# Altium integrated library National Semiconductor Audio.IntLib: 683 symbols (part 6 of 18)
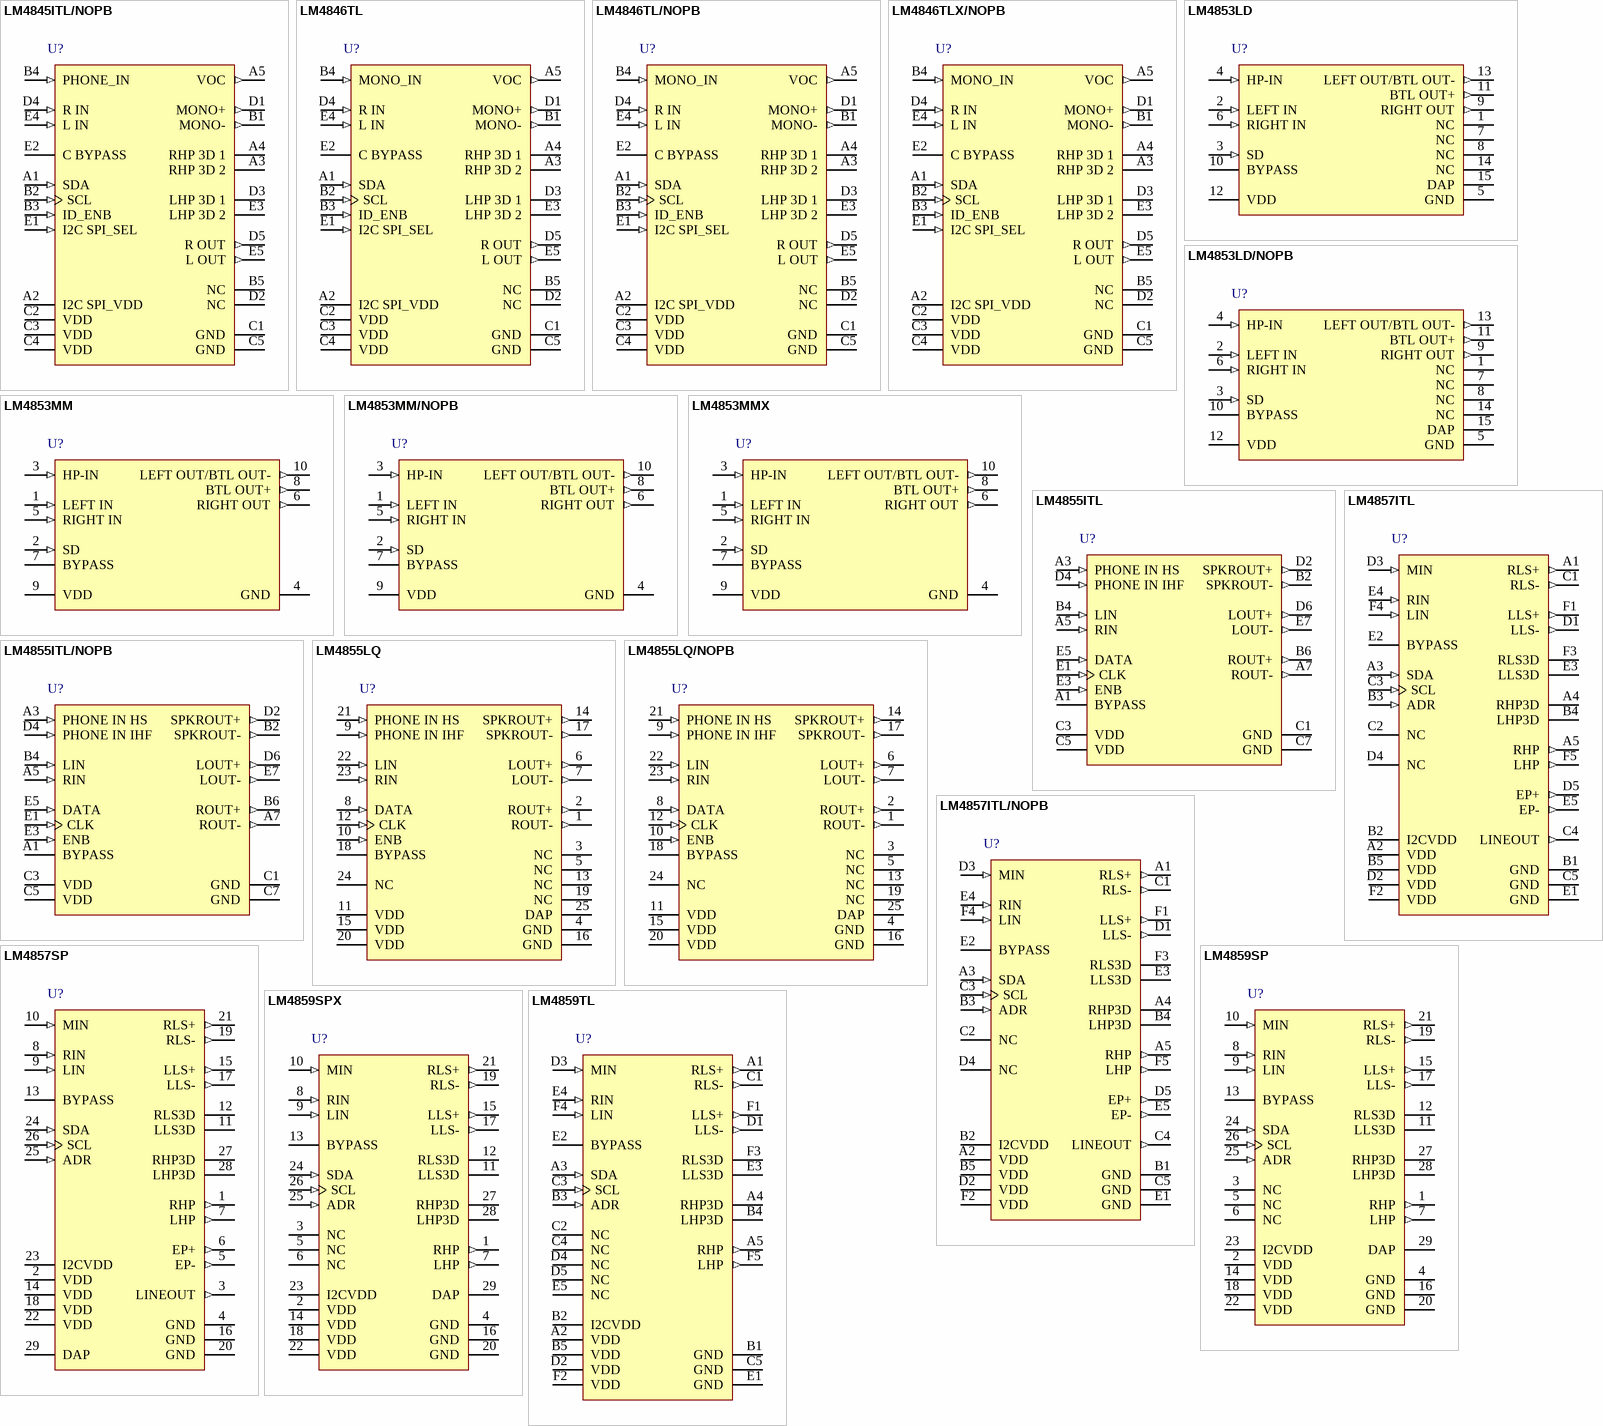
[diagram p32: symbols LM4845ITL/NOPB to LM4859TL]

## LM4857ITL
designator U?
Stereo 1.2W Audio Sub-system with 3D Enhancement, 30-pin Micro SMD; PartNumber: LM4857ITL; Manufacturer: National Semiconductor; PackageTopMarking: XVG*I C2; PowerWise: N; CompType: Audio IC; High-Reliability: Y; DatasheetVersion: Jun-2005; PackageVersion: revC, Dec-2003; PackageReference: TLA30CZA; PackageDescription: Thin Micro SMD, 30 Bump (Large), 0.5mm Pitch; RoHS: Y; PinCount: 30; Code_JEDEC: MO-211-DJ; ComponentLink1Description: Manufacturer URL; ComponentLink1URL: http://www.national.com/; ComponentLink2Description: LM4857 Datasheet; ComponentLink2URL: http://www.national.com/ds/LM/LM4857.pdf; ComponentLink3Description: LM4857 Web Page; ComponentLink3URL: http://www.national.com/pf/LM/LM4857.html; ComponentLink4Description: TLA30CZA Package Page; ComponentLink4URL: http://www.national.com/packaging/folders/tla30cza.html
footprint TLA30CZA (Micro SMD, 30-Leads, Body 2.95x2.55mm, Pitch 0.5mm, NSC Recommended)
pins: A1 RLS+ (out), A2 VDD (power), A3 SDA (in), A4 RHP3D, A5 RHP (out), B1 GND (power), B2 I2CVDD (power), B3 ADR (in), B4 LHP3D, B5 VDD (power), C1 RLS- (out), C2 NC, C3 SCL (in), C4 LINEOUT (out), C5 GND (power), D1 LLS- (out), D2 VDD (power), D3 MIN (in), D4 NC, D5 EP+ (out), E1 GND (power), E2 BYPASS, E3 LLS3D, E4 RIN (in), E5 EP- (out), F1 LLS+ (out), F2 VDD (power), F3 RLS3D, F4 LIN (in), F5 LHP (out)

## LM4857ITL/NOPB
designator U?
Stereo 1.2W Audio Sub-system with 3D Enhancement, 30-pin Micro SMD, Pb-Free; PartNumber: LM4857ITL/NOPB; Manufacturer: National Semiconductor; PackageTopMarking: XVG*I C2; PowerWise: N; CompType: Audio IC; High-Reliability: Y; DatasheetVersion: Jun-2005; PackageVersion: revC, Dec-2003; PackageReference: TLA30CZA; PackageDescription: Thin Micro SMD, 30 Bump (Large), 0.5mm Pitch; RoHS: Y; PinCount: 30; Code_JEDEC: MO-211-DJ; ComponentLink1Description: Manufacturer URL; ComponentLink1URL: http://www.national.com/; ComponentLink2Description: LM4857 Datasheet; ComponentLink2URL: http://www.national.com/ds/LM/LM4857.pdf; ComponentLink3Description: LM4857 Web Page; ComponentLink3URL: http://www.national.com/pf/LM/LM4857.html; ComponentLink4Description: TLA30CZA Package Page; ComponentLink4URL: http://www.national.com/packaging/folders/tla30cza.html
footprint TLA30CZA (Micro SMD, 30-Leads, Body 2.95x2.55mm, Pitch 0.5mm, NSC Recommended)
pins: A1 RLS+ (out), A2 VDD (power), A3 SDA (in), A4 RHP3D, A5 RHP (out), B1 GND (power), B2 I2CVDD (power), B3 ADR (in), B4 LHP3D, B5 VDD (power), C1 RLS- (out), C2 NC, C3 SCL (in), C4 LINEOUT (out), C5 GND (power), D1 LLS- (out), D2 VDD (power), D3 MIN (in), D4 NC, D5 EP+ (out), E1 GND (power), E2 BYPASS, E3 LLS3D, E4 RIN (in), E5 EP- (out), F1 LLS+ (out), F2 VDD (power), F3 RLS3D, F4 LIN (in), F5 LHP (out)

## LM4857SP
designator U?
Stereo 1.2W Audio Sub-system with 3D Enhancement, 29-pin LLP; PartNumber: LM4857SP; Manufacturer: National Semiconductor; PackageTopMarking: NS*UZXYTT*L4857SP; PowerWise: N; CompType: Audio IC; High-Reliability: Y; DatasheetVersion: Jun-2005; PackageVersion: revA, Aug-2003; PackageReference: SPA28A; PackageDescription: LLP, Plastic, Quad, 5 x 5 x 0.6mm Body, 28 Lead, 0.5mm Pitch, No Pullback; RoHS: N; PinCount: 28; Code_JEDEC: MO-220-WHHD-3; ComponentLink1Description: Manufacturer URL; ComponentLink1URL: http://www.national.com/; ComponentLink2Description: LM4857 Datasheet; ComponentLink2URL: http://www.national.com/ds/LM/LM4857.pdf; ComponentLink3Description: LM4857 Web Page; ComponentLink3URL: http://www.national.com/pf/LM/LM4857.html; ComponentLink4Description: SPA28A Package Page; ComponentLink4URL: http://www.national.com/packaging/folders/spa28a.html
footprint SPA28A (QFN, 28-Leads, Body 5x5mm, Pitch 0.5mm, Thermal Pad 3.7x3.7mm, NSC Recommended)
pins: 1 RHP (out), 2 VDD (power), 3 LINEOUT (out), 4 GND (power), 5 EP- (out), 6 EP+ (out), 7 LHP (out), 8 RIN (in), 9 LIN (in), 10 MIN (in), 11 LLS3D, 12 RLS3D, 13 BYPASS, 14 VDD (power), 15 LLS+ (out), 16 GND (power), 17 LLS- (out), 18 VDD (power), 19 RLS- (out), 20 GND (power), 21 RLS+ (out), 22 VDD (power), 23 I2CVDD (power), 24 SDA (in), 25 ADR (in), 26 SCL (in), 27 RHP3D, 28 LHP3D, 29 DAP (power)

## LM4859SP
designator U?
Stereo 1.2W Audio Sub-system with 3D Enhancement, 29-pin LLP; PartNumber: LM4859SP; Manufacturer: National Semiconductor; PackageTopMarking: NS*UZXYTT*L4859SP; PowerWise: N; CompType: Audio IC; High-Reliability: Y; DatasheetVersion: Jun-2005; PackageVersion: revA, Aug-2003; PackageReference: SPA28A; PackageDescription: LLP, Plastic, Quad, 5 x 5 x 0.6mm Body, 28 Lead, 0.5mm Pitch, No Pullback; RoHS: N; PinCount: 28; Code_JEDEC: MO-220-WHHD-3; ComponentLink1Description: Manufacturer URL; ComponentLink1URL: http://www.national.com/; ComponentLink2Description: LM4859 Datasheet; ComponentLink2URL: http://www.national.com/ds/LM/LM4859.pdf; ComponentLink3Description: LM4859 Web Page; ComponentLink3URL: http://www.national.com/pf/LM/LM4859.html; ComponentLink4Description: SPA28A Package Page; ComponentLink4URL: http://www.national.com/packaging/folders/spa28a.html
footprint SPA28A (QFN, 28-Leads, Body 5x5mm, Pitch 0.5mm, Thermal Pad 3.7x3.7mm, NSC Recommended)
pins: 1 RHP (out), 2 VDD (power), 3 NC, 4 GND (power), 5 NC, 6 NC, 7 LHP (out), 8 RIN (in), 9 LIN (in), 10 MIN (in), 11 LLS3D, 12 RLS3D, 13 BYPASS, 14 VDD (power), 15 LLS+ (out), 16 GND (power), 17 LLS- (out), 18 VDD (power), 19 RLS- (out), 20 GND (power), 21 RLS+ (out), 22 VDD (power), 23 I2CVDD (power), 24 SDA (in), 25 ADR (in), 26 SCL (in), 27 RHP3D, 28 LHP3D, 29 DAP (power)

## LM4859SPX
designator U?
Stereo 1.2W Audio Sub-system with 3D Enhancement, 28-pin LLP; PartNumber: LM4859SPX; Manufacturer: National Semiconductor; PackageTopMarking: NS*UZXYTT*L4859SP; PowerWise: N; CompType: Audio IC; High-Reliability: Y; DatasheetVersion: Jun-2005; PackageVersion: revA, Aug-2003; PackageReference: SPA28A; PackageDescription: LLP, Plastic, Quad, 5 x 5 x 0.6mm Body, 28 Lead, 0.5mm Pitch, No Pullback; RoHS: N; PinCount: 28; Code_JEDEC: MO-220-WHHD-3; ComponentLink1Description: Manufacturer URL; ComponentLink1URL: http://www.national.com/; ComponentLink2Description: LM4859 Datasheet; ComponentLink2URL: http://www.national.com/ds/LM/LM4859.pdf; ComponentLink3Description: LM4859 Web Page; ComponentLink3URL: http://www.national.com/pf/LM/LM4859.html; ComponentLink4Description: SPA28A Package Page; ComponentLink4URL: http://www.national.com/packaging/folders/spa28a.html
footprint SPA28A (QFN, 28-Leads, Body 5x5mm, Pitch 0.5mm, Thermal Pad 3.7x3.7mm, NSC Recommended)
pins: 1 RHP (out), 2 VDD (power), 3 NC, 4 GND (power), 5 NC, 6 NC, 7 LHP (out), 8 RIN (in), 9 LIN (in), 10 MIN (in), 11 LLS3D, 12 RLS3D, 13 BYPASS, 14 VDD (power), 15 LLS+ (out), 16 GND (power), 17 LLS- (out), 18 VDD (power), 19 RLS- (out), 20 GND (power), 21 RLS+ (out), 22 VDD (power), 23 I2CVDD (power), 24 SDA (in), 25 ADR (in), 26 SCL (in), 27 RHP3D, 28 LHP3D, 29 DAP (power)

## LM4859TL
designator U?
Stereo 1.2W Audio Sub-system with 3D Enhancement, 30-pin Micro SMD; PartNumber: LM4859TL; Manufacturer: National Semiconductor; PackageTopMarking: XYTT*I GF1; PowerWise: N; CompType: Audio IC; High-Reliability: Y; DatasheetVersion: Jun-2005; PackageVersion: revC, Dec-2003; PackageReference: TLA30CZA; PackageDescription: Thin Micro SMD, 30 Bump (Large), 0.5mm Pitch; RoHS: Y; PinCount: 30; Code_JEDEC: MO-211-DJ; ComponentLink1Description: Manufacturer URL; ComponentLink1URL: http://www.national.com/; ComponentLink2Description: LM4859 Datasheet; ComponentLink2URL: http://www.national.com/ds/LM/LM4859.pdf; ComponentLink3Description: LM4859 Web Page; ComponentLink3URL: http://www.national.com/pf/LM/LM4859.html; ComponentLink4Description: TLA30CZA Package Page; ComponentLink4URL: http://www.national.com/packaging/folders/tla30cza.html
footprint TLA30CZA (Micro SMD, 30-Leads, Body 2.95x2.55mm, Pitch 0.5mm, NSC Recommended)
pins: A1 RLS+ (out), A2 VDD (power), A3 SDA (in), A4 RHP3D, A5 RHP (out), B1 GND (power), B2 I2CVDD (power), B3 ADR (in), B4 LHP3D, B5 VDD (power), C1 RLS- (out), C2 NC, C3 SCL (in), C4 NC, C5 GND (power), D1 LLS- (out), D2 VDD (power), D3 MIN (in), D4 NC, D5 NC, E1 GND (power), E2 BYPASS, E3 LLS3D, E4 RIN (in), E5 NC, F1 LLS+ (out), F2 VDD (power), F3 RLS3D, F4 LIN (in), F5 LHP (out)

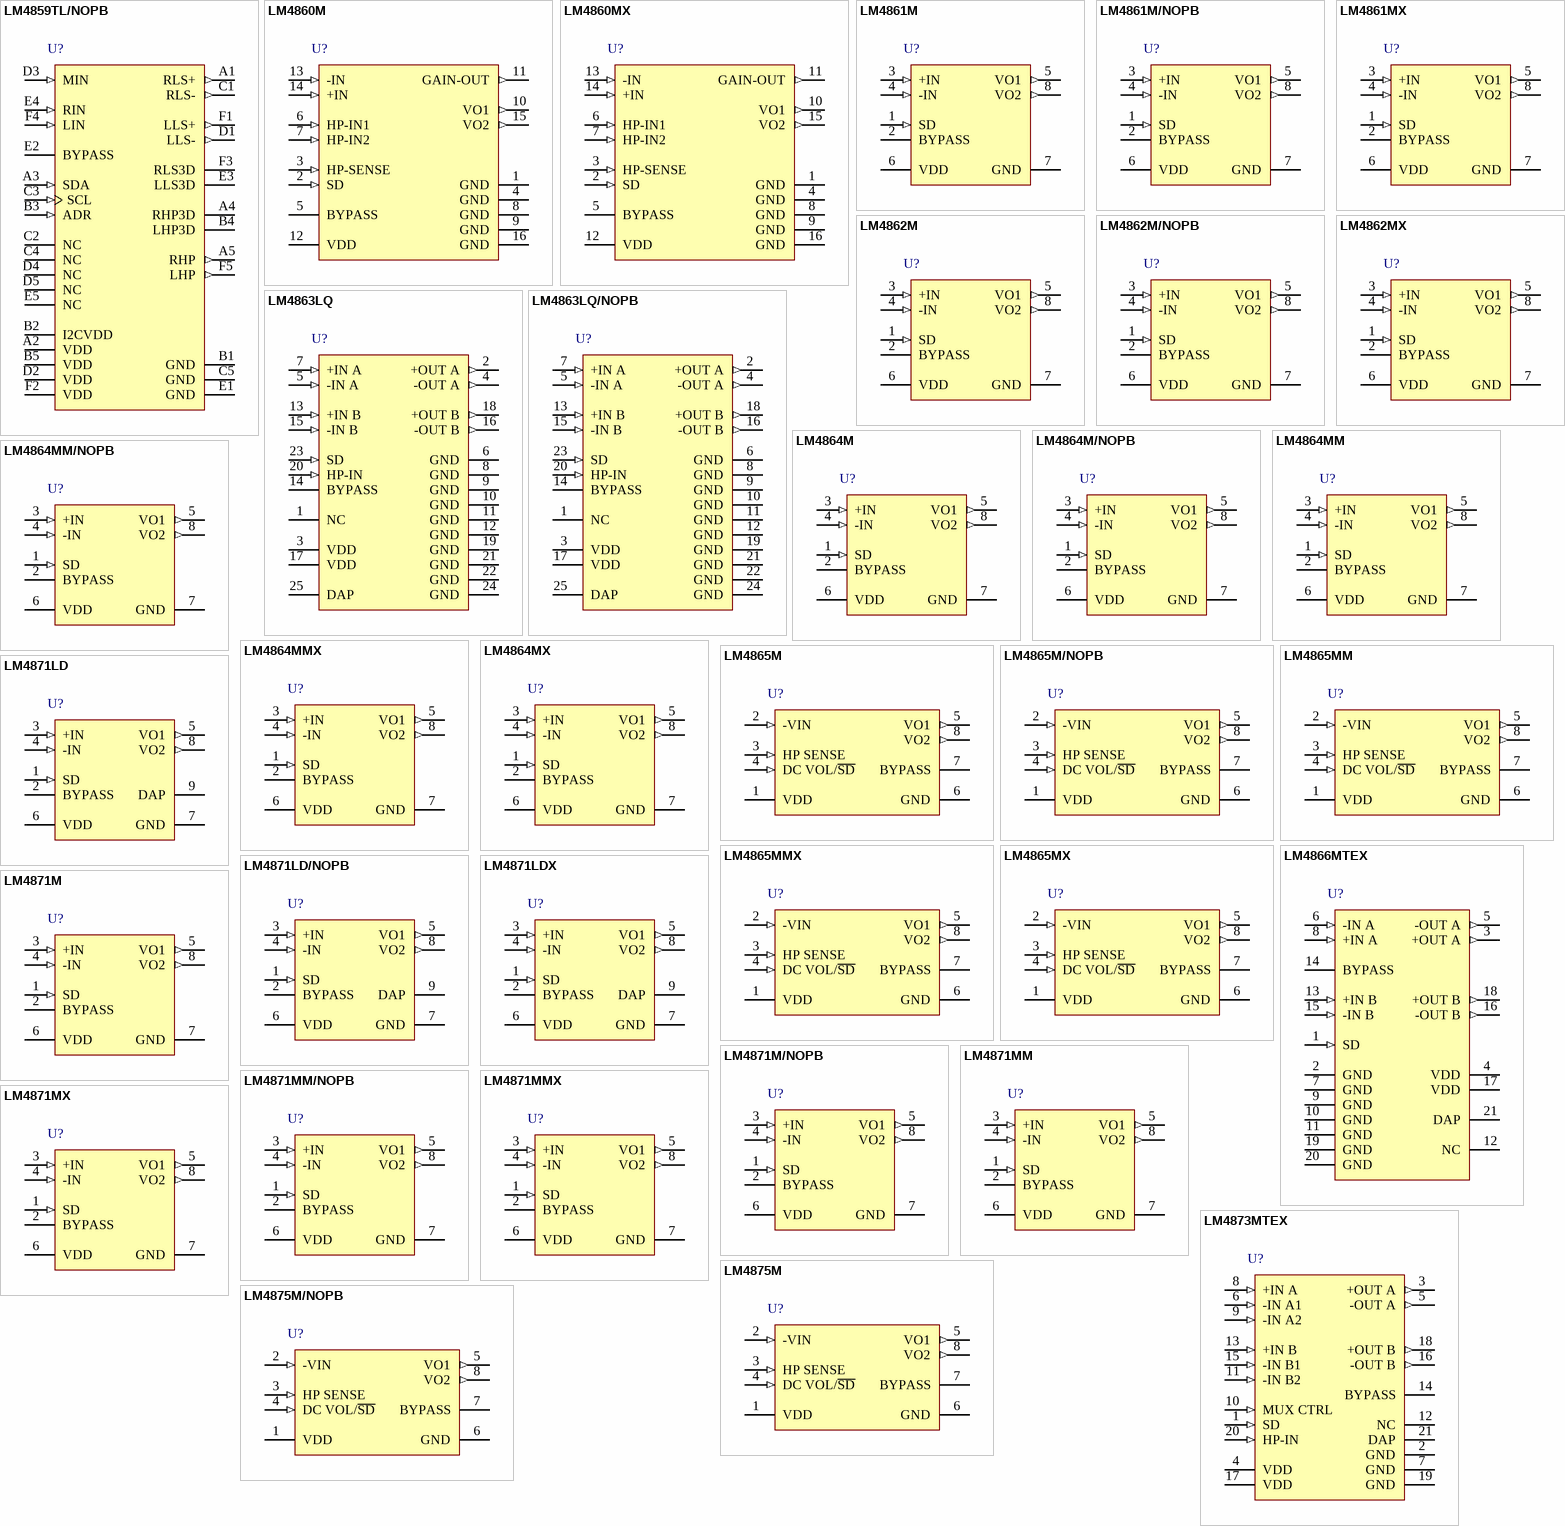
[diagram p8: symbols LM4859TL/NOPB to LM4875M/NOPB]

## LM4859TL/NOPB
designator U?
Stereo 1.2W Audio Sub-system with 3D Enhancement, 30-pin Micro SMD, Pb-Free; PartNumber: LM4859TL/NOPB; Manufacturer: National Semiconductor; PackageTopMarking: XYTT*I GF1; PowerWise: N; CompType: Audio IC; High-Reliability: Y; DatasheetVersion: Jun-2005; PackageVersion: revC, Dec-2003; PackageReference: TLA30CZA; PackageDescription: Thin Micro SMD, 30 Bump (Large), 0.5mm Pitch; RoHS: Y; PinCount: 30; Code_JEDEC: MO-211-DJ; ComponentLink1Description: Manufacturer URL; ComponentLink1URL: http://www.national.com/; ComponentLink2Description: LM4859 Datasheet; ComponentLink2URL: http://www.national.com/ds/LM/LM4859.pdf; ComponentLink3Description: LM4859 Web Page; ComponentLink3URL: http://www.national.com/pf/LM/LM4859.html; ComponentLink4Description: TLA30CZA Package Page; ComponentLink4URL: http://www.national.com/packaging/folders/tla30cza.html
footprint TLA30CZA (Micro SMD, 30-Leads, Body 2.95x2.55mm, Pitch 0.5mm, NSC Recommended)
pins: A1 RLS+ (out), A2 VDD (power), A3 SDA (in), A4 RHP3D, A5 RHP (out), B1 GND (power), B2 I2CVDD (power), B3 ADR (in), B4 LHP3D, B5 VDD (power), C1 RLS- (out), C2 NC, C3 SCL (in), C4 NC, C5 GND (power), D1 LLS- (out), D2 VDD (power), D3 MIN (in), D4 NC, D5 NC, E1 GND (power), E2 BYPASS, E3 LLS3D, E4 RIN (in), E5 NC, F1 LLS+ (out), F2 VDD (power), F3 RLS3D, F4 LIN (in), F5 LHP (out)

## LM4860M
designator U?
1W Audio Power Amplifier with Shutdown Mode, 16-pin Narrow SOIC; PartNumber: LM4860M; Manufacturer: National Semiconductor; PackageTopMarking: NSUZXYTTE#*LM4860M; PowerWise: N; CompType: Audio IC; High-Reliability: Y; DatasheetVersion: Aug-2000; PackageVersion: revJ, Aug-1995; PackageReference: M16A; PackageDescription: Molded Package, SO, .150in Wide, 16 Lead; RoHS: N; PinCount: 16; Code_JEDEC: MS-012-AC; Code_IPC: SOIC127P600-16; ComponentLink1Description: Manufacturer URL; ComponentLink1URL: http://www.national.com/; ComponentLink2Description: LM4860 Datasheet; ComponentLink2URL: http://www.national.com/ds/LM/LM4860.pdf; ComponentLink3Description: LM4860 Web Page; ComponentLink3URL: http://www.national.com/pf/LM/LM4860.html; ComponentLink4Description: M16A Package Page; ComponentLink4URL: http://www.national.com/packaging/folders/m16a.html
footprint M16A_N (SOIC, 16-Leads, Body 9.9x3.9mm, Pitch 1.27mm, IPC Medium Density)
footprint M16A_L (SOIC, 16-Leads, Body 9.9x3.9mm, Pitch 1.27mm, IPC High Density)
footprint M16A_M (SOIC, 16-Leads, Body 9.9x3.9mm, Pitch 1.27mm, IPC Low Density)
pins: 1 GND (power), 2 SD (in), 3 HP-SENSE (in), 4 GND (power), 5 BYPASS, 6 HP-IN1 (in), 7 HP-IN2 (in), 8 GND (power), 9 GND (power), 10 VO1 (out), 11 GAIN-OUT (out), 12 VDD (power), 13 -IN (in), 14 +IN (in), 15 VO2 (out), 16 GND (power)

## LM4860MX
designator U?
1W Audio Power Amplifier with Shutdown Mode, 16-pin Narrow SOIC; PartNumber: LM4860MX; Manufacturer: National Semiconductor; PackageTopMarking: NSUZXYTTE#*LM4860M; PowerWise: N; CompType: Audio IC; High-Reliability: Y; DatasheetVersion: Aug-2000; PackageVersion: revJ, Aug-1995; PackageReference: M16A; PackageDescription: Molded Package, SO, .150in Wide, 16 Lead; RoHS: N; PinCount: 16; Code_JEDEC: MS-012-AC; Code_IPC: SOIC127P600-16; ComponentLink1Description: Manufacturer URL; ComponentLink1URL: http://www.national.com/; ComponentLink2Description: LM4860 Datasheet; ComponentLink2URL: http://www.national.com/ds/LM/LM4860.pdf; ComponentLink3Description: LM4860 Web Page; ComponentLink3URL: http://www.national.com/pf/LM/LM4860.html; ComponentLink4Description: M16A Package Page; ComponentLink4URL: http://www.national.com/packaging/folders/m16a.html
footprint M16A_N (SOIC, 16-Leads, Body 9.9x3.9mm, Pitch 1.27mm, IPC Medium Density)
footprint M16A_L (SOIC, 16-Leads, Body 9.9x3.9mm, Pitch 1.27mm, IPC High Density)
footprint M16A_M (SOIC, 16-Leads, Body 9.9x3.9mm, Pitch 1.27mm, IPC Low Density)
pins: 1 GND (power), 2 SD (in), 3 HP-SENSE (in), 4 GND (power), 5 BYPASS, 6 HP-IN1 (in), 7 HP-IN2 (in), 8 GND (power), 9 GND (power), 10 VO1 (out), 11 GAIN-OUT (out), 12 VDD (power), 13 -IN (in), 14 +IN (in), 15 VO2 (out), 16 GND (power)

## LM4861M
designator U?
1.1W Audio Power Amplifier with Shutdown Mode, 8-pin Narrow SOIC; PartNumber: LM4861M; Manufacturer: National Semiconductor; PackageTopMarking: NSZXTT*LM*4861M; PowerWise: N; CompType: Audio IC; High-Reliability: Y; DatasheetVersion: Feb-2003; PackageVersion: revM, May-2009; PackageReference: M08A; PackageDescription: SOIC Narrow, 4.9 x 3.9 x 1.45mm, 8 Lead, 1.27mm Pitch; RoHS: N; PinCount: 8; Code_JEDEC: MS-012-AA; Code_IPC: SOIC127P600-8; ComponentLink1Description: Manufacturer URL; ComponentLink1URL: http://www.national.com/; ComponentLink2Description: LM4861 Datasheet; ComponentLink2URL: http://www.national.com/ds/LM/LM4861.pdf; ComponentLink3Description: LM4861 Web Page; ComponentLink3URL: http://www.national.com/pf/LM/LM4861.html; ComponentLink4Description: M08A Package Page; ComponentLink4URL: http://www.national.com/packaging/folders/m08a.html
footprint M08A_N (SOIC, 8-Leads, Body 4.9x3.9mm, Pitch 1.27mm, IPC Medium Density)
footprint M08A_L (SOIC, 8-Leads, Body 4.9x3.9mm, Pitch 1.27mm, IPC High Density)
footprint M08A_M (SOIC, 8-Leads, Body 4.9x3.9mm, Pitch 1.27mm, IPC Low Density)
pins: 1 SD (in), 2 BYPASS, 3 +IN (in), 4 -IN (in), 5 VO1 (out), 6 VDD (power), 7 GND (power), 8 VO2 (out)

## LM4861M/NOPB
designator U?
1.1W Audio Power Amplifier with Shutdown Mode, 8-pin Narrow SOIC, Pb-Free; PartNumber: LM4861M/NOPB; Manufacturer: National Semiconductor; PackageTopMarking: NSZXTT*LM*4861M; PowerWise: N; CompType: Audio IC; High-Reliability: Y; DatasheetVersion: Feb-2003; PackageVersion: revM, May-2009; PackageReference: M08A; PackageDescription: SOIC Narrow, 4.9 x 3.9 x 1.45mm, 8 Lead, 1.27mm Pitch; RoHS: Y; PinCount: 8; Code_JEDEC: MS-012-AA; Code_IPC: SOIC127P600-8; ComponentLink1Description: Manufacturer URL; ComponentLink1URL: http://www.national.com/; ComponentLink2Description: LM4861 Datasheet; ComponentLink2URL: http://www.national.com/ds/LM/LM4861.pdf; ComponentLink3Description: LM4861 Web Page; ComponentLink3URL: http://www.national.com/pf/LM/LM4861.html; ComponentLink4Description: M08A Package Page; ComponentLink4URL: http://www.national.com/packaging/folders/m08a.html
footprint M08A_N (SOIC, 8-Leads, Body 4.9x3.9mm, Pitch 1.27mm, IPC Medium Density)
footprint M08A_L (SOIC, 8-Leads, Body 4.9x3.9mm, Pitch 1.27mm, IPC High Density)
footprint M08A_M (SOIC, 8-Leads, Body 4.9x3.9mm, Pitch 1.27mm, IPC Low Density)
pins: 1 SD (in), 2 BYPASS, 3 +IN (in), 4 -IN (in), 5 VO1 (out), 6 VDD (power), 7 GND (power), 8 VO2 (out)

## LM4861MX
designator U?
1.1W Audio Power Amplifier with Shutdown Mode, 8-pin Narrow SOIC; PartNumber: LM4861MX; Manufacturer: National Semiconductor; PackageTopMarking: NSZXTT*LM*4861M; PowerWise: N; CompType: Audio IC; High-Reliability: Y; DatasheetVersion: Feb-2003; PackageVersion: revM, May-2009; PackageReference: M08A; PackageDescription: SOIC Narrow, 4.9 x 3.9 x 1.45mm, 8 Lead, 1.27mm Pitch; RoHS: N; PinCount: 8; Code_JEDEC: MS-012-AA; Code_IPC: SOIC127P600-8; ComponentLink1Description: Manufacturer URL; ComponentLink1URL: http://www.national.com/; ComponentLink2Description: LM4861 Datasheet; ComponentLink2URL: http://www.national.com/ds/LM/LM4861.pdf; ComponentLink3Description: LM4861 Web Page; ComponentLink3URL: http://www.national.com/pf/LM/LM4861.html; ComponentLink4Description: M08A Package Page; ComponentLink4URL: http://www.national.com/packaging/folders/m08a.html
footprint M08A_N (SOIC, 8-Leads, Body 4.9x3.9mm, Pitch 1.27mm, IPC Medium Density)
footprint M08A_L (SOIC, 8-Leads, Body 4.9x3.9mm, Pitch 1.27mm, IPC High Density)
footprint M08A_M (SOIC, 8-Leads, Body 4.9x3.9mm, Pitch 1.27mm, IPC Low Density)
pins: 1 SD (in), 2 BYPASS, 3 +IN (in), 4 -IN (in), 5 VO1 (out), 6 VDD (power), 7 GND (power), 8 VO2 (out)

## LM4862M
designator U?
675 mW Audio Power Amplifier with Shutdown Mode, 8-pin Narrow SOIC; PartNumber: LM4862M; Manufacturer: National Semiconductor; PackageTopMarking: NSZXTT*LM*4862M; PowerWise: N; CompType: Audio IC; High-Reliability: Y; DatasheetVersion: Sep-2004; PackageVersion: revM, May-2009; PackageReference: M08A; PackageDescription: SOIC Narrow, 4.9 x 3.9 x 1.45mm, 8 Lead, 1.27mm Pitch; RoHS: N; PinCount: 8; Code_JEDEC: MS-012-AA; Code_IPC: SOIC127P600-8; ComponentLink1Description: Manufacturer URL; ComponentLink1URL: http://www.national.com/; ComponentLink2Description: LM4862 Datasheet; ComponentLink2URL: http://www.national.com/ds/LM/LM4862.pdf; ComponentLink3Description: LM4862 Web Page; ComponentLink3URL: http://www.national.com/pf/LM/LM4862.html; ComponentLink4Description: M08A Package Page; ComponentLink4URL: http://www.national.com/packaging/folders/m08a.html
footprint M08A_N (SOIC, 8-Leads, Body 4.9x3.9mm, Pitch 1.27mm, IPC Medium Density)
footprint M08A_L (SOIC, 8-Leads, Body 4.9x3.9mm, Pitch 1.27mm, IPC High Density)
footprint M08A_M (SOIC, 8-Leads, Body 4.9x3.9mm, Pitch 1.27mm, IPC Low Density)
pins: 1 SD (in), 2 BYPASS, 3 +IN (in), 4 -IN (in), 5 VO1 (out), 6 VDD (power), 7 GND (power), 8 VO2 (out)

## LM4862M/NOPB
designator U?
675 mW Audio Power Amplifier with Shutdown Mode, 8-pin Narrow SOIC, Pb-Free; PartNumber: LM4862M/NOPB; Manufacturer: National Semiconductor; PackageTopMarking: NSZXTT*LM*4862M; PowerWise: N; CompType: Audio IC; High-Reliability: Y; DatasheetVersion: Sep-2004; PackageVersion: revM, May-2009; PackageReference: M08A; PackageDescription: SOIC Narrow, 4.9 x 3.9 x 1.45mm, 8 Lead, 1.27mm Pitch; RoHS: Y; PinCount: 8; Code_JEDEC: MS-012-AA; Code_IPC: SOIC127P600-8; ComponentLink1Description: Manufacturer URL; ComponentLink1URL: http://www.national.com/; ComponentLink2Description: LM4862 Datasheet; ComponentLink2URL: http://www.national.com/ds/LM/LM4862.pdf; ComponentLink3Description: LM4862 Web Page; ComponentLink3URL: http://www.national.com/pf/LM/LM4862.html; ComponentLink4Description: M08A Package Page; ComponentLink4URL: http://www.national.com/packaging/folders/m08a.html
footprint M08A_N (SOIC, 8-Leads, Body 4.9x3.9mm, Pitch 1.27mm, IPC Medium Density)
footprint M08A_L (SOIC, 8-Leads, Body 4.9x3.9mm, Pitch 1.27mm, IPC High Density)
footprint M08A_M (SOIC, 8-Leads, Body 4.9x3.9mm, Pitch 1.27mm, IPC Low Density)
pins: 1 SD (in), 2 BYPASS, 3 +IN (in), 4 -IN (in), 5 VO1 (out), 6 VDD (power), 7 GND (power), 8 VO2 (out)

## LM4862MX
designator U?
675 mW Audio Power Amplifier with Shutdown Mode, 8-pin Narrow SOIC; PartNumber: LM4862MX; Manufacturer: National Semiconductor; PackageTopMarking: NSZXTT*LM*4862M; PowerWise: N; CompType: Audio IC; High-Reliability: Y; DatasheetVersion: Sep-2004; PackageVersion: revM, May-2009; PackageReference: M08A; PackageDescription: SOIC Narrow, 4.9 x 3.9 x 1.45mm, 8 Lead, 1.27mm Pitch; RoHS: N; PinCount: 8; Code_JEDEC: MS-012-AA; Code_IPC: SOIC127P600-8; ComponentLink1Description: Manufacturer URL; ComponentLink1URL: http://www.national.com/; ComponentLink2Description: LM4862 Datasheet; ComponentLink2URL: http://www.national.com/ds/LM/LM4862.pdf; ComponentLink3Description: LM4862 Web Page; ComponentLink3URL: http://www.national.com/pf/LM/LM4862.html; ComponentLink4Description: M08A Package Page; ComponentLink4URL: http://www.national.com/packaging/folders/m08a.html
footprint M08A_N (SOIC, 8-Leads, Body 4.9x3.9mm, Pitch 1.27mm, IPC Medium Density)
footprint M08A_L (SOIC, 8-Leads, Body 4.9x3.9mm, Pitch 1.27mm, IPC High Density)
footprint M08A_M (SOIC, 8-Leads, Body 4.9x3.9mm, Pitch 1.27mm, IPC Low Density)
pins: 1 SD (in), 2 BYPASS, 3 +IN (in), 4 -IN (in), 5 VO1 (out), 6 VDD (power), 7 GND (power), 8 VO2 (out)

## LM4863LQ
designator U?
Dual 2.2W Audio Amplifier Plus Stereo Headphone Function, 25-pin LLP; PartNumber: LM4863LQ; Manufacturer: National Semiconductor; PackageTopMarking: NS*UZXYTT*L4863; PowerWise: N; CompType: Audio IC; High-Reliability: Y; DatasheetVersion: Oct-2006; PackageVersion: revB, Sep-2003; PackageReference: LQA24A; PackageDescription: LLP, Plastic, Quad, 5 x 4 x 0.8mm Body, 24 Lead, 0.5mm Pitch; RoHS: N; PinCount: 24; ComponentLink1Description: Manufacturer URL; ComponentLink1URL: http://www.national.com/; ComponentLink2Description: LM4863 Datasheet; ComponentLink2URL: http://www.national.com/ds/LM/LM4863.pdf; ComponentLink3Description: LM4863 Web Page; ComponentLink3URL: http://www.national.com/pf/LM/LM4863.html; ComponentLink4Description: LQA24A Package Page; ComponentLink4URL: http://www.national.com/packaging/folders/lqa24a.html
footprint LQA24A (PQFN, 24-Leads, Body 4x5mm, Pitch 0.5mm, NSC Recommended)
pins: 1 NC, 2 +OUT A (out), 3 VDD (power), 4 -OUT A (out), 5 -IN A (in), 6 GND (power), 7 +IN A (in), 8 GND (power), 9 GND (power), 10 GND (power), 11 GND (power), 12 GND (power), 13 +IN B (in), 14 BYPASS, 15 -IN B (in), 16 -OUT B (out), 17 VDD (power), 18 +OUT B (out), 19 GND (power), 20 HP-IN (in), 21 GND (power), 22 GND (power), 23 SD (in), 24 GND (power), 25 DAP (power)

## LM4863LQ/NOPB
designator U?
Dual 2.2W Audio Amplifier Plus Stereo Headphone Function, 24-pin LLP, Pb-Free; PartNumber: LM4863LQ/NOPB; Manufacturer: National Semiconductor; PackageTopMarking: NS*UZXYTT*L4863; PowerWise: N; CompType: Audio IC; High-Reliability: Y; DatasheetVersion: Oct-2006; PackageVersion: revB, Sep-2003; PackageReference: LQA24A; PackageDescription: LLP, Plastic, Quad, 5 x 4 x 0.8mm Body, 24 Lead, 0.5mm Pitch; RoHS: Y; PinCount: 24; ComponentLink1Description: Manufacturer URL; ComponentLink1URL: http://www.national.com/; ComponentLink2Description: LM4863 Datasheet; ComponentLink2URL: http://www.national.com/ds/LM/LM4863.pdf; ComponentLink3Description: LM4863 Web Page; ComponentLink3URL: http://www.national.com/pf/LM/LM4863.html; ComponentLink4Description: LQA24A Package Page; ComponentLink4URL: http://www.national.com/packaging/folders/lqa24a.html
footprint LQA24A (PQFN, 24-Leads, Body 4x5mm, Pitch 0.5mm, NSC Recommended)
pins: 1 NC, 2 +OUT A (out), 3 VDD (power), 4 -OUT A (out), 5 -IN A (in), 6 GND (power), 7 +IN A (in), 8 GND (power), 9 GND (power), 10 GND (power), 11 GND (power), 12 GND (power), 13 +IN B (in), 14 BYPASS, 15 -IN B (in), 16 -OUT B (out), 17 VDD (power), 18 +OUT B (out), 19 GND (power), 20 HP-IN (in), 21 GND (power), 22 GND (power), 23 SD (in), 24 GND (power), 25 DAP (power)

## LM4864M
designator U?
300mW Audio Power Amplifier with Shutdown Mode, 8-pin Narrow SOIC; PartNumber: LM4864M; Manufacturer: National Semiconductor; PackageTopMarking: NSZXTT*LM48*64M; PowerWise: N; CompType: Audio IC; High-Reliability: Y; DatasheetVersion: Sep-2004; PackageVersion: revM, May-2009; PackageReference: M08A; PackageDescription: SOIC Narrow, 4.9 x 3.9 x 1.45mm, 8 Lead, 1.27mm Pitch; RoHS: N; PinCount: 8; Code_JEDEC: MS-012-AA; Code_IPC: SOIC127P600-8; ComponentLink1Description: Manufacturer URL; ComponentLink1URL: http://www.national.com/; ComponentLink2Description: LM4864 Datasheet; ComponentLink2URL: http://www.national.com/ds/LM/LM4864.pdf; ComponentLink3Description: LM4864 Web Page; ComponentLink3URL: http://www.national.com/pf/LM/LM4864.html; ComponentLink4Description: M08A Package Page; ComponentLink4URL: http://www.national.com/packaging/folders/m08a.html
footprint M08A_N (SOIC, 8-Leads, Body 4.9x3.9mm, Pitch 1.27mm, IPC Medium Density)
footprint M08A_L (SOIC, 8-Leads, Body 4.9x3.9mm, Pitch 1.27mm, IPC High Density)
footprint M08A_M (SOIC, 8-Leads, Body 4.9x3.9mm, Pitch 1.27mm, IPC Low Density)
pins: 1 SD (in), 2 BYPASS, 3 +IN (in), 4 -IN (in), 5 VO1 (out), 6 VDD (power), 7 GND (power), 8 VO2 (out)

## LM4864M/NOPB
designator U?
300mW Audio Power Amplifier with Shutdown Mode, 8-pin Narrow SOIC, Pb-Free; PartNumber: LM4864M/NOPB; Manufacturer: National Semiconductor; PackageTopMarking: NSZXTT*LM48*64M; PowerWise: N; CompType: Audio IC; High-Reliability: Y; DatasheetVersion: Sep-2004; PackageVersion: revM, May-2009; PackageReference: M08A; PackageDescription: SOIC Narrow, 4.9 x 3.9 x 1.45mm, 8 Lead, 1.27mm Pitch; RoHS: Y; PinCount: 8; Code_JEDEC: MS-012-AA; Code_IPC: SOIC127P600-8; ComponentLink1Description: Manufacturer URL; ComponentLink1URL: http://www.national.com/; ComponentLink2Description: LM4864 Datasheet; ComponentLink2URL: http://www.national.com/ds/LM/LM4864.pdf; ComponentLink3Description: LM4864 Web Page; ComponentLink3URL: http://www.national.com/pf/LM/LM4864.html; ComponentLink4Description: M08A Package Page; ComponentLink4URL: http://www.national.com/packaging/folders/m08a.html
footprint M08A_N (SOIC, 8-Leads, Body 4.9x3.9mm, Pitch 1.27mm, IPC Medium Density)
footprint M08A_L (SOIC, 8-Leads, Body 4.9x3.9mm, Pitch 1.27mm, IPC High Density)
footprint M08A_M (SOIC, 8-Leads, Body 4.9x3.9mm, Pitch 1.27mm, IPC Low Density)
pins: 1 SD (in), 2 BYPASS, 3 +IN (in), 4 -IN (in), 5 VO1 (out), 6 VDD (power), 7 GND (power), 8 VO2 (out)

## LM4864MM
designator U?
300mW Audio Power Amplifier with Shutdown Mode, 8-pin Mini SOIC; PartNumber: LM4864MM; Manufacturer: National Semiconductor; PackageTopMarking: ZXTT*Z64; PowerWise: N; CompType: Audio IC; High-Reliability: Y; DatasheetVersion: Sep-2004; PackageVersion: revF, Apr-2008; PackageReference: MUA08A; PackageDescription: MINI SOIC, .118 x .118 x .034in, 8 Lead, .0256in Pitch; RoHS: N; PinCount: 8; Code_JEDEC: MO-187-AA; ComponentLink1Description: Manufacturer URL; ComponentLink1URL: http://www.national.com/; ComponentLink2Description: LM4864 Datasheet; ComponentLink2URL: http://www.national.com/ds/LM/LM4864.pdf; ComponentLink3Description: LM4864 Web Page; ComponentLink3URL: http://www.national.com/pf/LM/LM4864.html; ComponentLink4Description: MUA08A Package Page; ComponentLink4URL: http://www.national.com/packaging/folders/mua08a.html
footprint MUA08A_N (TSOP, 8-Leads, Body 3x3mm, Pitch 0.65mm, IPC Medium Density)
footprint MUA08A_L (TSOP, 8-Leads, Body 3x3mm, Pitch 0.65mm, IPC High Density)
footprint MUA08A_M (TSOP, 8-Leads, Body 3x3mm, Pitch 0.65mm, IPC Low Density)
pins: 1 SD (in), 2 BYPASS, 3 +IN (in), 4 -IN (in), 5 VO1 (out), 6 VDD (power), 7 GND (power), 8 VO2 (out)

## LM4864MM/NOPB
designator U?
300mW Audio Power Amplifier with Shutdown Mode, 8-pin Mini SOIC, Pb-Free; PartNumber: LM4864MM/NOPB; Manufacturer: National Semiconductor; PackageTopMarking: ZXTT*Z64; PowerWise: N; CompType: Audio IC; High-Reliability: Y; DatasheetVersion: Sep-2004; PackageVersion: revF, Apr-2008; PackageReference: MUA08A; PackageDescription: MINI SOIC, .118 x .118 x .034in, 8 Lead, .0256in Pitch; RoHS: Y; PinCount: 8; Code_JEDEC: MO-187-AA; ComponentLink1Description: Manufacturer URL; ComponentLink1URL: http://www.national.com/; ComponentLink2Description: LM4864 Datasheet; ComponentLink2URL: http://www.national.com/ds/LM/LM4864.pdf; ComponentLink3Description: LM4864 Web Page; ComponentLink3URL: http://www.national.com/pf/LM/LM4864.html; ComponentLink4Description: MUA08A Package Page; ComponentLink4URL: http://www.national.com/packaging/folders/mua08a.html
footprint MUA08A_N (TSOP, 8-Leads, Body 3x3mm, Pitch 0.65mm, IPC Medium Density)
footprint MUA08A_L (TSOP, 8-Leads, Body 3x3mm, Pitch 0.65mm, IPC High Density)
footprint MUA08A_M (TSOP, 8-Leads, Body 3x3mm, Pitch 0.65mm, IPC Low Density)
pins: 1 SD (in), 2 BYPASS, 3 +IN (in), 4 -IN (in), 5 VO1 (out), 6 VDD (power), 7 GND (power), 8 VO2 (out)

## LM4864MMX
designator U?
300mW Audio Power Amplifier with Shutdown Mode, 8-pin Mini SOIC; PartNumber: LM4864MMX; Manufacturer: National Semiconductor; PackageTopMarking: ZXTT*Z64; PowerWise: N; CompType: Audio IC; High-Reliability: Y; DatasheetVersion: Sep-2004; PackageVersion: revF, Apr-2008; PackageReference: MUA08A; PackageDescription: MINI SOIC, .118 x .118 x .034in, 8 Lead, .0256in Pitch; RoHS: N; PinCount: 8; Code_JEDEC: MO-187-AA; ComponentLink1Description: Manufacturer URL; ComponentLink1URL: http://www.national.com/; ComponentLink2Description: LM4864 Datasheet; ComponentLink2URL: http://www.national.com/ds/LM/LM4864.pdf; ComponentLink3Description: LM4864 Web Page; ComponentLink3URL: http://www.national.com/pf/LM/LM4864.html; ComponentLink4Description: MUA08A Package Page; ComponentLink4URL: http://www.national.com/packaging/folders/mua08a.html
footprint MUA08A_N (TSOP, 8-Leads, Body 3x3mm, Pitch 0.65mm, IPC Medium Density)
footprint MUA08A_L (TSOP, 8-Leads, Body 3x3mm, Pitch 0.65mm, IPC High Density)
footprint MUA08A_M (TSOP, 8-Leads, Body 3x3mm, Pitch 0.65mm, IPC Low Density)
pins: 1 SD (in), 2 BYPASS, 3 +IN (in), 4 -IN (in), 5 VO1 (out), 6 VDD (power), 7 GND (power), 8 VO2 (out)

## LM4864MX
designator U?
300mW Audio Power Amplifier with Shutdown Mode, 8-pin Narrow SOIC; PartNumber: LM4864MX; Manufacturer: National Semiconductor; PackageTopMarking: NSZXTT*LM48*64M; PowerWise: N; CompType: Audio IC; High-Reliability: Y; DatasheetVersion: Sep-2004; PackageVersion: revM, May-2009; PackageReference: M08A; PackageDescription: SOIC Narrow, 4.9 x 3.9 x 1.45mm, 8 Lead, 1.27mm Pitch; RoHS: N; PinCount: 8; Code_JEDEC: MS-012-AA; Code_IPC: SOIC127P600-8; ComponentLink1Description: Manufacturer URL; ComponentLink1URL: http://www.national.com/; ComponentLink2Description: LM4864 Datasheet; ComponentLink2URL: http://www.national.com/ds/LM/LM4864.pdf; ComponentLink3Description: LM4864 Web Page; ComponentLink3URL: http://www.national.com/pf/LM/LM4864.html; ComponentLink4Description: M08A Package Page; ComponentLink4URL: http://www.national.com/packaging/folders/m08a.html
footprint M08A_N (SOIC, 8-Leads, Body 4.9x3.9mm, Pitch 1.27mm, IPC Medium Density)
footprint M08A_L (SOIC, 8-Leads, Body 4.9x3.9mm, Pitch 1.27mm, IPC High Density)
footprint M08A_M (SOIC, 8-Leads, Body 4.9x3.9mm, Pitch 1.27mm, IPC Low Density)
pins: 1 SD (in), 2 BYPASS, 3 +IN (in), 4 -IN (in), 5 VO1 (out), 6 VDD (power), 7 GND (power), 8 VO2 (out)

## LM4865M
designator U?
750mW Audio Power Amplifier with DC Volume Control and Headphone Switch, 8-pin Narrow SOIC; PartNumber: LM4865M; Manufacturer: National Semiconductor; PackageTopMarking: NSZXTT*LM48*65M; PowerWise: N; CompType: Audio IC; High-Reliability: Y; DatasheetVersion: Oct-2002; PackageVersion: revM, May-2009; PackageReference: M08A; PackageDescription: SOIC Narrow, 4.9 x 3.9 x 1.45mm, 8 Lead, 1.27mm Pitch; RoHS: N; PinCount: 8; Code_JEDEC: MS-012-AA; Code_IPC: SOIC127P600-8; ComponentLink1Description: Manufacturer URL; ComponentLink1URL: http://www.national.com/; ComponentLink2Description: LM4865 Datasheet; ComponentLink2URL: http://www.national.com/ds/LM/LM4865.pdf; ComponentLink3Description: LM4865 Web Page; ComponentLink3URL: http://www.national.com/pf/LM/LM4865.html; ComponentLink4Description: M08A Package Page; ComponentLink4URL: http://www.national.com/packaging/folders/m08a.html
footprint M08A_N (SOIC, 8-Leads, Body 4.9x3.9mm, Pitch 1.27mm, IPC Medium Density)
footprint M08A_L (SOIC, 8-Leads, Body 4.9x3.9mm, Pitch 1.27mm, IPC High Density)
footprint M08A_M (SOIC, 8-Leads, Body 4.9x3.9mm, Pitch 1.27mm, IPC Low Density)
pins: 1 VDD (power), 2 -VIN (in), 3 HP SENSE (in), 4 DC VOL/~{SD} (in), 5 VO1 (out), 6 GND (power), 7 BYPASS, 8 VO2 (out)

## LM4865M/NOPB
designator U?
750mW Audio Power Amplifier with DC Volume Control and Headphone Switch, 8-pin Narrow SOIC, Pb-Free; PartNumber: LM4865M/NOPB; Manufacturer: National Semiconductor; PackageTopMarking: NSZXTT*LM48*65M; PowerWise: N; CompType: Audio IC; High-Reliability: Y; DatasheetVersion: Oct-2002; PackageVersion: revM, May-2009; PackageReference: M08A; PackageDescription: SOIC Narrow, 4.9 x 3.9 x 1.45mm, 8 Lead, 1.27mm Pitch; RoHS: Y; PinCount: 8; Code_JEDEC: MS-012-AA; Code_IPC: SOIC127P600-8; ComponentLink1Description: Manufacturer URL; ComponentLink1URL: http://www.national.com/; ComponentLink2Description: LM4865 Datasheet; ComponentLink2URL: http://www.national.com/ds/LM/LM4865.pdf; ComponentLink3Description: LM4865 Web Page; ComponentLink3URL: http://www.national.com/pf/LM/LM4865.html; ComponentLink4Description: M08A Package Page; ComponentLink4URL: http://www.national.com/packaging/folders/m08a.html
footprint M08A_N (SOIC, 8-Leads, Body 4.9x3.9mm, Pitch 1.27mm, IPC Medium Density)
footprint M08A_L (SOIC, 8-Leads, Body 4.9x3.9mm, Pitch 1.27mm, IPC High Density)
footprint M08A_M (SOIC, 8-Leads, Body 4.9x3.9mm, Pitch 1.27mm, IPC Low Density)
pins: 1 VDD (power), 2 -VIN (in), 3 HP SENSE (in), 4 DC VOL/~{SD} (in), 5 VO1 (out), 6 GND (power), 7 BYPASS, 8 VO2 (out)

## LM4865MM
designator U?
750mW Audio Power Amplifier with DC Volume Control and Headphone Switch, 8-pin Mini SOIC; PartNumber: LM4865MM; Manufacturer: National Semiconductor; PackageTopMarking: ZXTT*Z65; PowerWise: N; CompType: Audio IC; High-Reliability: Y; DatasheetVersion: Oct-2002; PackageVersion: revF, Apr-2008; PackageReference: MUA08A; PackageDescription: MINI SOIC, .118 x .118 x .034in, 8 Lead, .0256in Pitch; RoHS: N; PinCount: 8; Code_JEDEC: MO-187-AA; ComponentLink1Description: Manufacturer URL; ComponentLink1URL: http://www.national.com/; ComponentLink2Description: LM4865 Datasheet; ComponentLink2URL: http://www.national.com/ds/LM/LM4865.pdf; ComponentLink3Description: LM4865 Web Page; ComponentLink3URL: http://www.national.com/pf/LM/LM4865.html; ComponentLink4Description: MUA08A Package Page; ComponentLink4URL: http://www.national.com/packaging/folders/mua08a.html
footprint MUA08A_N (TSOP, 8-Leads, Body 3x3mm, Pitch 0.65mm, IPC Medium Density)
footprint MUA08A_L (TSOP, 8-Leads, Body 3x3mm, Pitch 0.65mm, IPC High Density)
footprint MUA08A_M (TSOP, 8-Leads, Body 3x3mm, Pitch 0.65mm, IPC Low Density)
pins: 1 VDD (power), 2 -VIN (in), 3 HP SENSE (in), 4 DC VOL/~{SD} (in), 5 VO1 (out), 6 GND (power), 7 BYPASS, 8 VO2 (out)

## LM4865MMX
designator U?
750mW Audio Power Amplifier with DC Volume Control and Headphone Switch, 8-pin Mini SOIC; PartNumber: LM4865MMX; Manufacturer: National Semiconductor; PackageTopMarking: ZXTT*Z65; PowerWise: N; CompType: Audio IC; High-Reliability: Y; DatasheetVersion: Oct-2002; PackageVersion: revF, Apr-2008; PackageReference: MUA08A; PackageDescription: MINI SOIC, .118 x .118 x .034in, 8 Lead, .0256in Pitch; RoHS: N; PinCount: 8; Code_JEDEC: MO-187-AA; ComponentLink1Description: Manufacturer URL; ComponentLink1URL: http://www.national.com/; ComponentLink2Description: LM4865 Datasheet; ComponentLink2URL: http://www.national.com/ds/LM/LM4865.pdf; ComponentLink3Description: LM4865 Web Page; ComponentLink3URL: http://www.national.com/pf/LM/LM4865.html; ComponentLink4Description: MUA08A Package Page; ComponentLink4URL: http://www.national.com/packaging/folders/mua08a.html
footprint MUA08A_N (TSOP, 8-Leads, Body 3x3mm, Pitch 0.65mm, IPC Medium Density)
footprint MUA08A_L (TSOP, 8-Leads, Body 3x3mm, Pitch 0.65mm, IPC High Density)
footprint MUA08A_M (TSOP, 8-Leads, Body 3x3mm, Pitch 0.65mm, IPC Low Density)
pins: 1 VDD (power), 2 -VIN (in), 3 HP SENSE (in), 4 DC VOL/~{SD} (in), 5 VO1 (out), 6 GND (power), 7 BYPASS, 8 VO2 (out)

## LM4865MX
designator U?
750mW Audio Power Amplifier with DC Volume Control and Headphone Switch, 8-pin Narrow SOIC; PartNumber: LM4865MX; Manufacturer: National Semiconductor; PackageTopMarking: NSZXTT*LM48*65M; PowerWise: N; CompType: Audio IC; High-Reliability: Y; DatasheetVersion: Oct-2002; PackageVersion: revM, May-2009; PackageReference: M08A; PackageDescription: SOIC Narrow, 4.9 x 3.9 x 1.45mm, 8 Lead, 1.27mm Pitch; RoHS: N; PinCount: 8; Code_JEDEC: MS-012-AA; Code_IPC: SOIC127P600-8; ComponentLink1Description: Manufacturer URL; ComponentLink1URL: http://www.national.com/; ComponentLink2Description: LM4865 Datasheet; ComponentLink2URL: http://www.national.com/ds/LM/LM4865.pdf; ComponentLink3Description: LM4865 Web Page; ComponentLink3URL: http://www.national.com/pf/LM/LM4865.html; ComponentLink4Description: M08A Package Page; ComponentLink4URL: http://www.national.com/packaging/folders/m08a.html
footprint M08A_N (SOIC, 8-Leads, Body 4.9x3.9mm, Pitch 1.27mm, IPC Medium Density)
footprint M08A_L (SOIC, 8-Leads, Body 4.9x3.9mm, Pitch 1.27mm, IPC High Density)
footprint M08A_M (SOIC, 8-Leads, Body 4.9x3.9mm, Pitch 1.27mm, IPC Low Density)
pins: 1 VDD (power), 2 -VIN (in), 3 HP SENSE (in), 4 DC VOL/~{SD} (in), 5 VO1 (out), 6 GND (power), 7 BYPASS, 8 VO2 (out)

## LM4866MTEX
designator U?
2.2W Stereo Audio Amplifier, 20-pin TSSOP-EP; PartNumber: LM4866MTEX; Manufacturer: National Semiconductor; PackageTopMarking: NSUZXYTT*LM4866*MTE; PowerWise: N; CompType: Audio IC; High-Reliability: Y; DatasheetVersion: Apr-2005; PackageVersion: revC, Jul-2006; PackageReference: MXA20A; PackageDescription: Molded TSSOP, Jedec, 6.5 x 4.4 x 0.9mm Body, 20 Lead, 0.65mm Pitch, Exposed Pad; RoHS: N; PinCount: 20; Code_JEDEC: MO-153-ACT; ComponentLink1Description: Manufacturer URL; ComponentLink1URL: http://www.national.com/; ComponentLink2Description: LM4866 Datasheet; ComponentLink2URL: http://www.national.com/ds/LM/LM4866.pdf; ComponentLink3Description: LM4866 Web Page; ComponentLink3URL: http://www.national.com/pf/LM/LM4866.html; ComponentLink4Description: MXA20A Package Page; ComponentLink4URL: http://www.national.com/packaging/folders/mxa20a.html
footprint MXA20A_N (TSOP, 20-Leads, Body 6.5x4.4mm, Pitch 0.65mm, Thermal Pad, IPC Medium Density)
footprint MXA20A_L (TSOP, 20-Leads, Body 6.5x4.4mm, Pitch 0.65mm, Thermal Pad, IPC High Density)
footprint MXA20A_M (TSOP, 20-Leads, Body 6.5x4.4mm, Pitch 0.65mm, Thermal Pad, IPC Low Density)
pins: 1 SD (in), 2 GND (power), 3 +OUT A (out), 4 VDD (power), 5 -OUT A (out), 6 -IN A (in), 7 GND (power), 8 +IN A (in), 9 GND (power), 10 GND (power), 11 GND (power), 12 NC, 13 +IN B (in), 14 BYPASS, 15 -IN B (in), 16 -OUT B (out), 17 VDD (power), 18 +OUT B (out), 19 GND (power), 20 GND (power), 21 DAP (power)

## LM4871LD
designator U?
3W Audio Power Amplifier with Shutdown Mode, 9-pin LLP; PartNumber: LM4871LD; Manufacturer: National Semiconductor; PackageTopMarking: NS*UZXYTT*L4871; PowerWise: N; CompType: Audio IC; High-Reliability: Y; DatasheetVersion: Jan-2003; PackageVersion: revB, Jun-2003; PackageReference: LDC08A; PackageDescription: LLP, Plastic, Dual, 4 x 4 x 0.75mm Body, 8 Lead, 0.8mm Pitch; RoHS: N; PinCount: 8; ComponentLink1Description: Manufacturer URL; ComponentLink1URL: http://www.national.com/; ComponentLink2Description: LM4871 Datasheet; ComponentLink2URL: http://www.national.com/ds/LM/LM4871.pdf; ComponentLink3Description: LM4871 Web Page; ComponentLink3URL: http://www.national.com/pf/LM/LM4871.html; ComponentLink4Description: LDC08A Package Page; ComponentLink4URL: http://www.national.com/packaging/folders/ldc08a.html
footprint LDC08A (PSON, 8-Leads, Body 4x4mm, Pitch 0.8mm, NSC Recommended)
pins: 1 SD (in), 2 BYPASS, 3 +IN (in), 4 -IN (in), 5 VO1 (out), 6 VDD (power), 7 GND (power), 8 VO2 (out), 9 DAP (power)

## LM4871LD/NOPB
designator U?
3W Audio Power Amplifier with Shutdown Mode, 8-pin LLP, Pb-Free; PartNumber: LM4871LD/NOPB; Manufacturer: National Semiconductor; PackageTopMarking: NS*UZXYTT*L4871; PowerWise: N; CompType: Audio IC; High-Reliability: Y; DatasheetVersion: Jan-2003; PackageVersion: revB, Jun-2003; PackageReference: LDC08A; PackageDescription: LLP, Plastic, Dual, 4 x 4 x 0.75mm Body, 8 Lead, 0.8mm Pitch; RoHS: Y; PinCount: 8; ComponentLink1Description: Manufacturer URL; ComponentLink1URL: http://www.national.com/; ComponentLink2Description: LM4871 Datasheet; ComponentLink2URL: http://www.national.com/ds/LM/LM4871.pdf; ComponentLink3Description: LM4871 Web Page; ComponentLink3URL: http://www.national.com/pf/LM/LM4871.html; ComponentLink4Description: LDC08A Package Page; ComponentLink4URL: http://www.national.com/packaging/folders/ldc08a.html
footprint LDC08A (PSON, 8-Leads, Body 4x4mm, Pitch 0.8mm, NSC Recommended)
pins: 1 SD (in), 2 BYPASS, 3 +IN (in), 4 -IN (in), 5 VO1 (out), 6 VDD (power), 7 GND (power), 8 VO2 (out), 9 DAP (power)

## LM4871LDX
designator U?
3W Audio Power Amplifier with Shutdown Mode, 8-pin LLP; PartNumber: LM4871LDX; Manufacturer: National Semiconductor; PackageTopMarking: NS*UZXYTT*L4871; PowerWise: N; CompType: Audio IC; High-Reliability: Y; DatasheetVersion: Jan-2003; PackageVersion: revB, Jun-2003; PackageReference: LDC08A; PackageDescription: LLP, Plastic, Dual, 4 x 4 x 0.75mm Body, 8 Lead, 0.8mm Pitch; RoHS: N; PinCount: 8; ComponentLink1Description: Manufacturer URL; ComponentLink1URL: http://www.national.com/; ComponentLink2Description: LM4871 Datasheet; ComponentLink2URL: http://www.national.com/ds/LM/LM4871.pdf; ComponentLink3Description: LM4871 Web Page; ComponentLink3URL: http://www.national.com/pf/LM/LM4871.html; ComponentLink4Description: LDC08A Package Page; ComponentLink4URL: http://www.national.com/packaging/folders/ldc08a.html
footprint LDC08A (PSON, 8-Leads, Body 4x4mm, Pitch 0.8mm, NSC Recommended)
pins: 1 SD (in), 2 BYPASS, 3 +IN (in), 4 -IN (in), 5 VO1 (out), 6 VDD (power), 7 GND (power), 8 VO2 (out), 9 DAP (power)

## LM4871M
designator U?
3W Audio Power Amplifier with Shutdown Mode, 8-pin Narrow SOIC; PartNumber: LM4871M; Manufacturer: National Semiconductor; PackageTopMarking: NSZXTT*4871; PowerWise: N; CompType: Audio IC; High-Reliability: Y; DatasheetVersion: Jan-2003; PackageVersion: revM, May-2009; PackageReference: M08A; PackageDescription: SOIC Narrow, 4.9 x 3.9 x 1.45mm, 8 Lead, 1.27mm Pitch; RoHS: N; PinCount: 8; Code_JEDEC: MS-012-AA; Code_IPC: SOIC127P600-8; ComponentLink1Description: Manufacturer URL; ComponentLink1URL: http://www.national.com/; ComponentLink2Description: LM4871 Datasheet; ComponentLink2URL: http://www.national.com/ds/LM/LM4871.pdf; ComponentLink3Description: LM4871 Web Page; ComponentLink3URL: http://www.national.com/pf/LM/LM4871.html; ComponentLink4Description: M08A Package Page; ComponentLink4URL: http://www.national.com/packaging/folders/m08a.html
footprint M08A_N (SOIC, 8-Leads, Body 4.9x3.9mm, Pitch 1.27mm, IPC Medium Density)
footprint M08A_L (SOIC, 8-Leads, Body 4.9x3.9mm, Pitch 1.27mm, IPC High Density)
footprint M08A_M (SOIC, 8-Leads, Body 4.9x3.9mm, Pitch 1.27mm, IPC Low Density)
pins: 1 SD (in), 2 BYPASS, 3 +IN (in), 4 -IN (in), 5 VO1 (out), 6 VDD (power), 7 GND (power), 8 VO2 (out)

## LM4871M/NOPB
designator U?
3W Audio Power Amplifier with Shutdown Mode, 8-pin Narrow SOIC, Pb-Free; PartNumber: LM4871M/NOPB; Manufacturer: National Semiconductor; PackageTopMarking: NSZXTT*4871; PowerWise: N; CompType: Audio IC; High-Reliability: Y; DatasheetVersion: Jan-2003; PackageVersion: revM, May-2009; PackageReference: M08A; PackageDescription: SOIC Narrow, 4.9 x 3.9 x 1.45mm, 8 Lead, 1.27mm Pitch; RoHS: Y; PinCount: 8; Code_JEDEC: MS-012-AA; Code_IPC: SOIC127P600-8; ComponentLink1Description: Manufacturer URL; ComponentLink1URL: http://www.national.com/; ComponentLink2Description: LM4871 Datasheet; ComponentLink2URL: http://www.national.com/ds/LM/LM4871.pdf; ComponentLink3Description: LM4871 Web Page; ComponentLink3URL: http://www.national.com/pf/LM/LM4871.html; ComponentLink4Description: M08A Package Page; ComponentLink4URL: http://www.national.com/packaging/folders/m08a.html
footprint M08A_N (SOIC, 8-Leads, Body 4.9x3.9mm, Pitch 1.27mm, IPC Medium Density)
footprint M08A_L (SOIC, 8-Leads, Body 4.9x3.9mm, Pitch 1.27mm, IPC High Density)
footprint M08A_M (SOIC, 8-Leads, Body 4.9x3.9mm, Pitch 1.27mm, IPC Low Density)
pins: 1 SD (in), 2 BYPASS, 3 +IN (in), 4 -IN (in), 5 VO1 (out), 6 VDD (power), 7 GND (power), 8 VO2 (out)

## LM4871MM
designator U?
3W Audio Power Amplifier with Shutdown Mode, 8-pin Mini SOIC; PartNumber: LM4871MM; Manufacturer: National Semiconductor; PackageTopMarking: ZXTT*G71; PowerWise: N; CompType: Audio IC; High-Reliability: Y; DatasheetVersion: Jan-2003; PackageVersion: revF, Apr-2008; PackageReference: MUA08A; PackageDescription: MINI SOIC, .118 x .118 x .034in, 8 Lead, .0256in Pitch; RoHS: N; PinCount: 8; Code_JEDEC: MO-187-AA; ComponentLink1Description: Manufacturer URL; ComponentLink1URL: http://www.national.com/; ComponentLink2Description: LM4871 Datasheet; ComponentLink2URL: http://www.national.com/ds/LM/LM4871.pdf; ComponentLink3Description: LM4871 Web Page; ComponentLink3URL: http://www.national.com/pf/LM/LM4871.html; ComponentLink4Description: MUA08A Package Page; ComponentLink4URL: http://www.national.com/packaging/folders/mua08a.html
footprint MUA08A_N (TSOP, 8-Leads, Body 3x3mm, Pitch 0.65mm, IPC Medium Density)
footprint MUA08A_L (TSOP, 8-Leads, Body 3x3mm, Pitch 0.65mm, IPC High Density)
footprint MUA08A_M (TSOP, 8-Leads, Body 3x3mm, Pitch 0.65mm, IPC Low Density)
pins: 1 SD (in), 2 BYPASS, 3 +IN (in), 4 -IN (in), 5 VO1 (out), 6 VDD (power), 7 GND (power), 8 VO2 (out)

## LM4871MM/NOPB
designator U?
3W Audio Power Amplifier with Shutdown Mode, 8-pin Mini SOIC, Pb-Free; PartNumber: LM4871MM/NOPB; Manufacturer: National Semiconductor; PackageTopMarking: ZXTT*G71; PowerWise: N; CompType: Audio IC; High-Reliability: Y; DatasheetVersion: Jan-2003; PackageVersion: revF, Apr-2008; PackageReference: MUA08A; PackageDescription: MINI SOIC, .118 x .118 x .034in, 8 Lead, .0256in Pitch; RoHS: Y; PinCount: 8; Code_JEDEC: MO-187-AA; ComponentLink1Description: Manufacturer URL; ComponentLink1URL: http://www.national.com/; ComponentLink2Description: LM4871 Datasheet; ComponentLink2URL: http://www.national.com/ds/LM/LM4871.pdf; ComponentLink3Description: LM4871 Web Page; ComponentLink3URL: http://www.national.com/pf/LM/LM4871.html; ComponentLink4Description: MUA08A Package Page; ComponentLink4URL: http://www.national.com/packaging/folders/mua08a.html
footprint MUA08A_N (TSOP, 8-Leads, Body 3x3mm, Pitch 0.65mm, IPC Medium Density)
footprint MUA08A_L (TSOP, 8-Leads, Body 3x3mm, Pitch 0.65mm, IPC High Density)
footprint MUA08A_M (TSOP, 8-Leads, Body 3x3mm, Pitch 0.65mm, IPC Low Density)
pins: 1 SD (in), 2 BYPASS, 3 +IN (in), 4 -IN (in), 5 VO1 (out), 6 VDD (power), 7 GND (power), 8 VO2 (out)

## LM4871MMX
designator U?
3W Audio Power Amplifier with Shutdown Mode, 8-pin Mini SOIC; PartNumber: LM4871MMX; Manufacturer: National Semiconductor; PackageTopMarking: ZXTT*G71; PowerWise: N; CompType: Audio IC; High-Reliability: Y; DatasheetVersion: Jan-2003; PackageVersion: revF, Apr-2008; PackageReference: MUA08A; PackageDescription: MINI SOIC, .118 x .118 x .034in, 8 Lead, .0256in Pitch; RoHS: N; PinCount: 8; Code_JEDEC: MO-187-AA; ComponentLink1Description: Manufacturer URL; ComponentLink1URL: http://www.national.com/; ComponentLink2Description: LM4871 Datasheet; ComponentLink2URL: http://www.national.com/ds/LM/LM4871.pdf; ComponentLink3Description: LM4871 Web Page; ComponentLink3URL: http://www.national.com/pf/LM/LM4871.html; ComponentLink4Description: MUA08A Package Page; ComponentLink4URL: http://www.national.com/packaging/folders/mua08a.html
footprint MUA08A_N (TSOP, 8-Leads, Body 3x3mm, Pitch 0.65mm, IPC Medium Density)
footprint MUA08A_L (TSOP, 8-Leads, Body 3x3mm, Pitch 0.65mm, IPC High Density)
footprint MUA08A_M (TSOP, 8-Leads, Body 3x3mm, Pitch 0.65mm, IPC Low Density)
pins: 1 SD (in), 2 BYPASS, 3 +IN (in), 4 -IN (in), 5 VO1 (out), 6 VDD (power), 7 GND (power), 8 VO2 (out)

## LM4871MX
designator U?
3W Audio Power Amplifier with Shutdown Mode, 8-pin Narrow SOIC; PartNumber: LM4871MX; Manufacturer: National Semiconductor; PackageTopMarking: NSZXTT*4871; PowerWise: N; CompType: Audio IC; High-Reliability: Y; DatasheetVersion: Jan-2003; PackageVersion: revM, May-2009; PackageReference: M08A; PackageDescription: SOIC Narrow, 4.9 x 3.9 x 1.45mm, 8 Lead, 1.27mm Pitch; RoHS: N; PinCount: 8; Code_JEDEC: MS-012-AA; Code_IPC: SOIC127P600-8; ComponentLink1Description: Manufacturer URL; ComponentLink1URL: http://www.national.com/; ComponentLink2Description: LM4871 Datasheet; ComponentLink2URL: http://www.national.com/ds/LM/LM4871.pdf; ComponentLink3Description: LM4871 Web Page; ComponentLink3URL: http://www.national.com/pf/LM/LM4871.html; ComponentLink4Description: M08A Package Page; ComponentLink4URL: http://www.national.com/packaging/folders/m08a.html
footprint M08A_N (SOIC, 8-Leads, Body 4.9x3.9mm, Pitch 1.27mm, IPC Medium Density)
footprint M08A_L (SOIC, 8-Leads, Body 4.9x3.9mm, Pitch 1.27mm, IPC High Density)
footprint M08A_M (SOIC, 8-Leads, Body 4.9x3.9mm, Pitch 1.27mm, IPC Low Density)
pins: 1 SD (in), 2 BYPASS, 3 +IN (in), 4 -IN (in), 5 VO1 (out), 6 VDD (power), 7 GND (power), 8 VO2 (out)

## LM4873MTEX
designator U?
Dual 2.1W Audio Amplifier Plus Stereo Headphone Function, 20-pin TSSOP-EP; PartNumber: LM4873MTEX; Manufacturer: National Semiconductor; PackageTopMarking: NSUZXYTT*LM4873*MTE; PowerWise: N; CompType: Audio IC; High-Reliability: Y; DatasheetVersion: Oct-2002; PackageVersion: revC, Jul-2006; PackageReference: MXA20A; PackageDescription: Molded TSSOP, Jedec, 6.5 x 4.4 x 0.9mm Body, 20 Lead, 0.65mm Pitch, Exposed Pad; RoHS: N; PinCount: 20; Code_JEDEC: MO-153-ACT; ComponentLink1Description: Manufacturer URL; ComponentLink1URL: http://www.national.com/; ComponentLink2Description: LM4873 Datasheet; ComponentLink2URL: http://www.national.com/ds/LM/LM4873.pdf; ComponentLink3Description: LM4873 Web Page; ComponentLink3URL: http://www.national.com/pf/LM/LM4873.html; ComponentLink4Description: MXA20A Package Page; ComponentLink4URL: http://www.national.com/packaging/folders/mxa20a.html
footprint MXA20A_N (TSOP, 20-Leads, Body 6.5x4.4mm, Pitch 0.65mm, Thermal Pad, IPC Medium Density)
footprint MXA20A_L (TSOP, 20-Leads, Body 6.5x4.4mm, Pitch 0.65mm, Thermal Pad, IPC High Density)
footprint MXA20A_M (TSOP, 20-Leads, Body 6.5x4.4mm, Pitch 0.65mm, Thermal Pad, IPC Low Density)
pins: 1 SD (in), 2 GND (power), 3 +OUT A (out), 4 VDD (power), 5 -OUT A (out), 6 -IN A1 (in), 7 GND (power), 8 +IN A (in), 9 -IN A2 (in), 10 MUX CTRL (in), 11 -IN B2 (in), 12 NC, 13 +IN B (in), 14 BYPASS, 15 -IN B1 (in), 16 -OUT B (out), 17 VDD (power), 18 +OUT B (out), 19 GND (power), 20 HP-IN (in), 21 DAP (power)